# EAGLE library part 942H (library myparts)
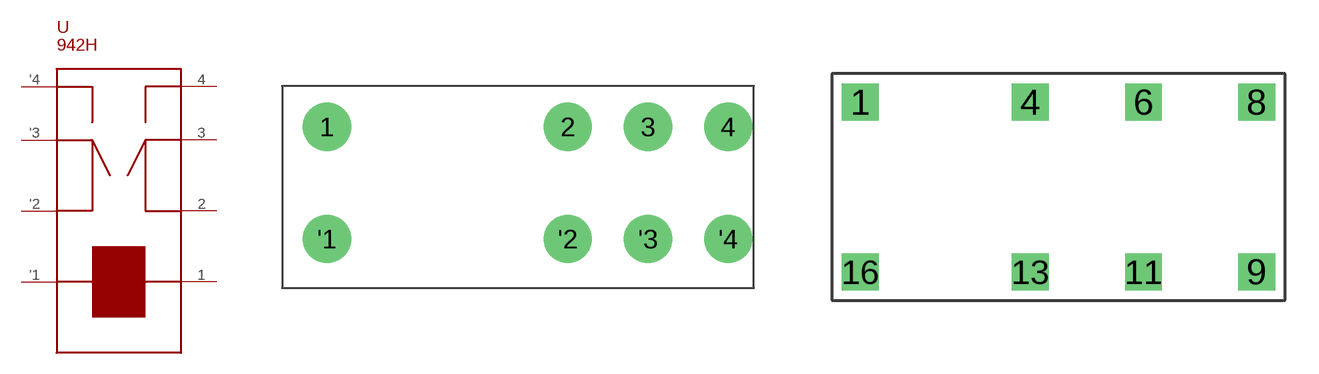
[diagram p17: symbol with the pads of 942H; footprints 942H, 941H-2C-12D]

Designator prefix -

## 942H-2C-12DS  [942H]
1  4
2  3
3  2
4  1
'1  '4
'2  '3
'3  '2
'4  '1

## 942H  [941H-2C-12D]
1  4
4  3
6  2
8  1
9  '1
11  '2
13  '3
16  '4

## Footprint 942H (pad centres in mm)
drill 2: 1 -11.9,3.75; 2 3.1,3.75; 3 8.1,3.75; 4 13.1,3.75; '1 -11.9,-3.25; '2 3.1,-3.25; '3 8.1,-3.25; '4 13.1,-3.25

## Footprint 941H-2C-12D (pad centres in mm)
drill 1.1 square: 1 -7.62,3.81; 4 0,3.81; 6 5.08,3.81; 8 10.16,3.81; 9 10.16,-3.81; 11 5.08,-3.81; 13 0,-3.81; 16 -7.62,-3.81